# Altium integrated library TI_Logic_Gate.IntLib: 2017 symbols (part 45 of 56)
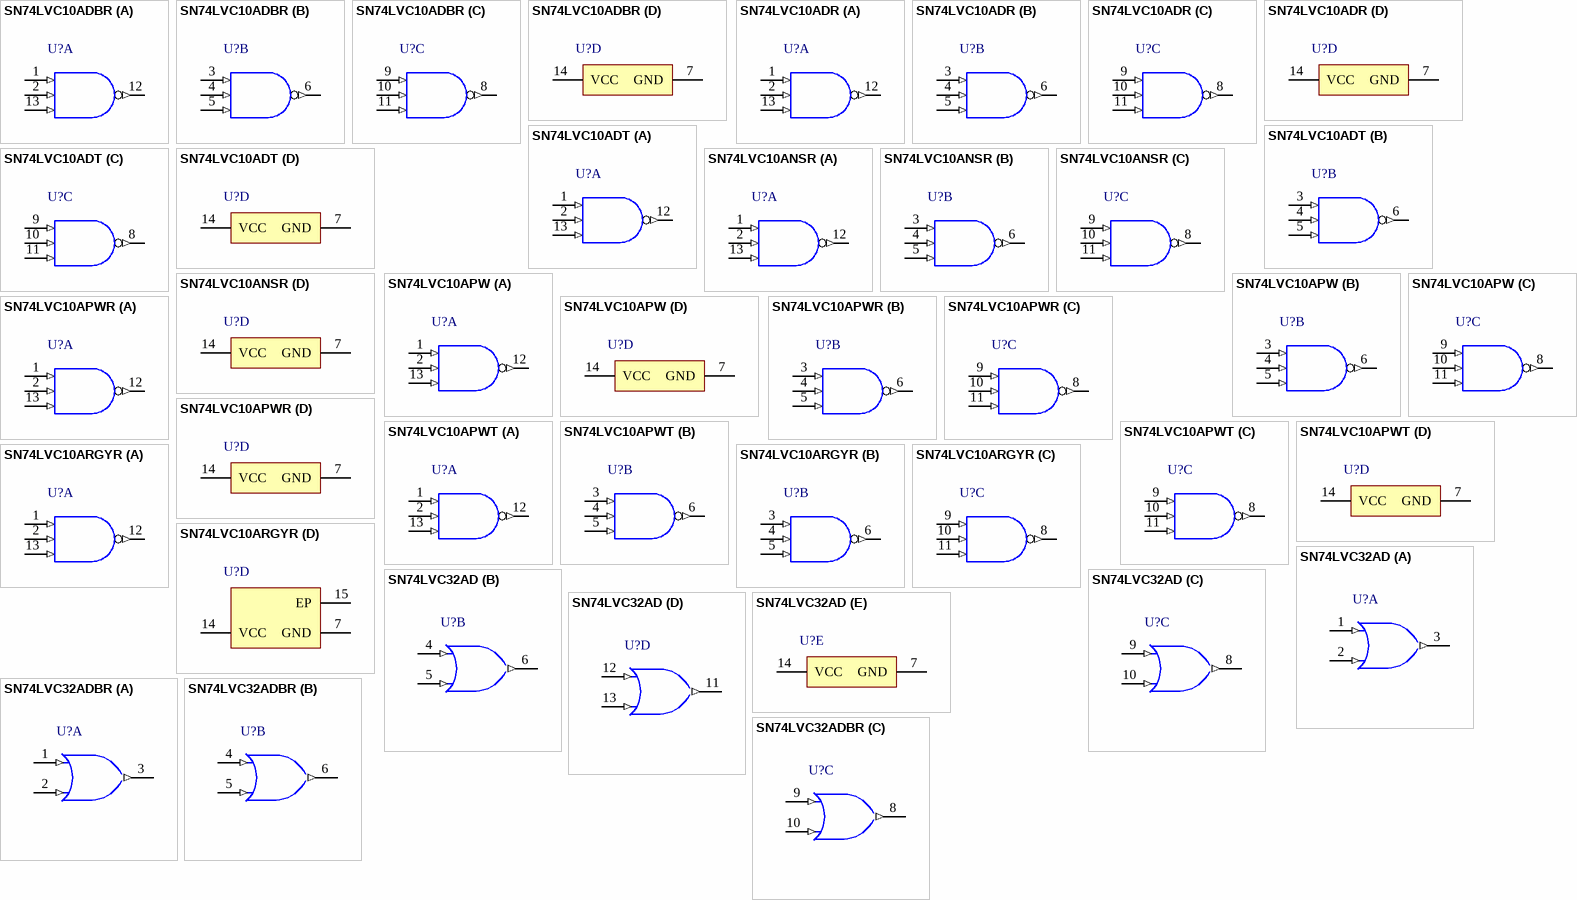
[diagram p269: symbols SN74LVC10ADBR to SN74LVC32ADBR]

## SN74LVC10ADBR
designator U?
Triple 3-Input Positive-NAND Gate, DB0014A, LARGE T&R; Generic Part Number: SN74LVC10A; Manufacturer: Texas Instruments; PartNumber: SN74LVC10ADBR; VCC(Min)(V): 1.65; VCC(Max)(V): 3.6; Output Type: TTL; ICC @ Nom Voltage(Max)(mA): 0.04; F @ Nom Voltage(Max)(Mhz): 150; Rating: Catalog; Technology Family: LVC; Voltage(Nom)(V): 1.8,2.5,2.7,3.3; Schmitt Trigger: No; Output Drive (IOL/IOH)(Max)(mA): 24/-24; tpd @ Nom Voltage(Max)(ns): 10.6,7.8,5.8,4.9; DatasheetVersion: SCAS284O; PackageReference: DB0014A; Supplier 1: Mouser; Supplier Part Number 1: 595-SN74LVC10ADBR; Supplier 2: Digi-Key; Supplier Part Number 2: 296-8444-2-ND; Supplier 3: Digi-Key; Supplier Part Number 3: 296-8444-1-ND; Supplier 4: Digi-Key; Supplier Part Number 4: 296-8444-6-ND; Input Type: TTL; Operating Temperature Range(C): -40 to 125,-40 to 85; Code_JEDEC: MO-150; ComponentLink1Description: Manufacturer URL; ComponentLink1URL: http://www.ti.com/; ComponentLink2Description: Datasheet; ComponentLink2URL: http://www.ti.com/lit/ds/symlink/sn74lvc10a.pdf; ComponentLink3Description: Package Specification; ComponentLink3URL: http://www.ti.com/lit/ml/msso002e/msso002e.pdf
footprint DB0014A_N (SOP, 14-Leads, Body 5.6x6.5mm, Pitch 0.65mm, IPC Medium Density)
footprint DB0014A_M (SOP, 14-Leads, Body 5.6x6.5mm, Pitch 0.65mm, IPC Low Density)
footprint DB0014A_L (SOP, 14-Leads, Body 5.6x6.5mm, Pitch 0.65mm, IPC High Density)
part A pins: 1 1A (in), 2 1B (in), 12 1Y (out), 13 1C (in)
part B pins: 3 2A (in), 4 2B (in), 5 2C (in), 6 2Y (out)
part C pins: 8 3Y (out), 9 3A (in), 10 3B (in), 11 3C (in)
part D pins: 7 GND (power), 14 VCC (power)

## SN74LVC10ADR
designator U?
Triple 3-Input Positive-NAND Gate, D0014A, LARGE T&R; Generic Part Number: SN74LVC10A; Manufacturer: Texas Instruments; PartNumber: SN74LVC10ADR; VCC(Min)(V): 1.65; VCC(Max)(V): 3.6; Output Type: TTL; ICC @ Nom Voltage(Max)(mA): 0.04; F @ Nom Voltage(Max)(Mhz): 150; Rating: Catalog; Technology Family: LVC; Voltage(Nom)(V): 1.8,2.5,2.7,3.3; Schmitt Trigger: No; Output Drive (IOL/IOH)(Max)(mA): 24/-24; tpd @ Nom Voltage(Max)(ns): 10.6,7.8,5.8,4.9; DatasheetVersion: SCAS284O; PackageReference: D0014A; Supplier 1: Mouser; Supplier Part Number 1: 595-SN74LVC10ADR; Supplier 2: Digi-Key; Supplier Part Number 2: 296-38252-2-ND; Supplier 3: Digi-Key; Supplier Part Number 3: 296-38252-1-ND; Supplier 4: Digi-Key; Supplier Part Number 4: 296-38252-6-ND; Input Type: TTL; Operating Temperature Range(C): -40 to 125,-40 to 85; Code_JEDEC: MS-012; ComponentLink1Description: Manufacturer URL; ComponentLink1URL: http://www.ti.com/; ComponentLink2Description: Datasheet; ComponentLink2URL: http://www.ti.com/lit/ds/symlink/sn74lvc10a.pdf; ComponentLink3Description: Package Specification; ComponentLink3URL: http://www.ti.com/lit/ml/mpds177g/mpds177g.pdf
footprint D0014A_N (SOIC, 14-Leads, Body 8.75x4mm, Pitch 1.27mm, IPC Medium Density)
footprint D0014A_M (SOIC, 14-Leads, Body 8.75x4mm, Pitch 1.27mm, IPC Low Density)
footprint D0014A_L (SOIC, 14-Leads, Body 8.75x4mm, Pitch 1.27mm, IPC High Density)
part A pins: 1 1A (in), 2 1B (in), 12 1Y (out), 13 1C (in)
part B pins: 3 2A (in), 4 2B (in), 5 2C (in), 6 2Y (out)
part C pins: 8 3Y (out), 9 3A (in), 10 3B (in), 11 3C (in)
part D pins: 7 GND (power), 14 VCC (power)

## SN74LVC10ADT
designator U?
Triple 3-Input Positive-NAND Gate, D0014A, SMALL T&R; Generic Part Number: SN74LVC10A; Manufacturer: Texas Instruments; PartNumber: SN74LVC10ADT; VCC(Min)(V): 1.65; VCC(Max)(V): 3.6; Output Type: TTL; ICC @ Nom Voltage(Max)(mA): 0.04; F @ Nom Voltage(Max)(Mhz): 150; Rating: Catalog; Technology Family: LVC; Voltage(Nom)(V): 1.8,2.5,2.7,3.3; Schmitt Trigger: No; Output Drive (IOL/IOH)(Max)(mA): 24/-24; tpd @ Nom Voltage(Max)(ns): 10.6,7.8,5.8,4.9; DatasheetVersion: SCAS284O; PackageReference: D0014A; Supplier 1: Mouser; Supplier Part Number 1: 595-SN74LVC10ADT; Supplier 2: Digi-Key; Supplier Part Number 2: SN74LVC10ADT-ND; Input Type: TTL; Operating Temperature Range(C): -40 to 125,-40 to 85; Code_JEDEC: MS-012; ComponentLink1Description: Manufacturer URL; ComponentLink1URL: http://www.ti.com/; ComponentLink2Description: Datasheet; ComponentLink2URL: http://www.ti.com/lit/ds/symlink/sn74lvc10a.pdf; ComponentLink3Description: Package Specification; ComponentLink3URL: http://www.ti.com/lit/ml/mpds177g/mpds177g.pdf
footprint D0014A_N (SOIC, 14-Leads, Body 8.75x4mm, Pitch 1.27mm, IPC Medium Density)
footprint D0014A_M (SOIC, 14-Leads, Body 8.75x4mm, Pitch 1.27mm, IPC Low Density)
footprint D0014A_L (SOIC, 14-Leads, Body 8.75x4mm, Pitch 1.27mm, IPC High Density)
part A pins: 1 1A (in), 2 1B (in), 12 1Y (out), 13 1C (in)
part B pins: 3 2A (in), 4 2B (in), 5 2C (in), 6 2Y (out)
part C pins: 8 3Y (out), 9 3A (in), 10 3B (in), 11 3C (in)
part D pins: 7 GND (power), 14 VCC (power)

## SN74LVC10ANSR
designator U?
Triple 3-Input Positive-NAND Gate, NS0014A, LARGE T&R; Generic Part Number: SN74LVC10A; Manufacturer: Texas Instruments; PartNumber: SN74LVC10ANSR; VCC(Min)(V): 1.65; VCC(Max)(V): 3.6; Output Type: TTL; ICC @ Nom Voltage(Max)(mA): 0.04; F @ Nom Voltage(Max)(Mhz): 150; Rating: Catalog; Technology Family: LVC; Voltage(Nom)(V): 1.8,2.5,2.7,3.3; Schmitt Trigger: No; Output Drive (IOL/IOH)(Max)(mA): 24/-24; tpd @ Nom Voltage(Max)(ns): 10.6,7.8,5.8,4.9; DatasheetVersion: SCAS284O; PackageReference: NS0014A; Supplier 1: Mouser; Supplier Part Number 1: 595-SN74LVC10ANSR; Supplier 2: Digi-Key; Supplier Part Number 2: SN74LVC10ANSR-ND; Input Type: TTL; Operating Temperature Range(C): -40 to 125,-40 to 85; ComponentLink1Description: Manufacturer URL; ComponentLink1URL: http://www.ti.com/; ComponentLink2Description: Datasheet; ComponentLink2URL: http://www.ti.com/lit/ds/symlink/sn74lvc10a.pdf; ComponentLink3Description: Package Specification; ComponentLink3URL: http://www.ti.com/lit/ml/msop002a/msop002a.pdf
footprint NS0014A_N (SOIC,14-Leads,Body 10.5x5.6mm,Pitch 1.27mm,IPC Medium Density)
footprint NS0014A_M (SOIC,14-Leads,Body 10.5x5.6mm,Pitch 1.27mm,IPC Low Density)
footprint NS0014A_L (SOIC,14-Leads,Body 10.5x5.6mm,Pitch 0.4mm,IPC High Density)
part A pins: 1 1A (in), 2 1B (in), 12 1Y (out), 13 1C (in)
part B pins: 3 2A (in), 4 2B (in), 5 2C (in), 6 2Y (out)
part C pins: 8 3Y (out), 9 3A (in), 10 3B (in), 11 3C (in)
part D pins: 7 GND (power), 14 VCC (power)

## SN74LVC10APW
designator U?
Triple 3-Input Positive-NAND Gate, PW0014A, TUBE; Generic Part Number: SN74LVC10A; Manufacturer: Texas Instruments; PartNumber: SN74LVC10APW; VCC(Min)(V): 1.65; VCC(Max)(V): 3.6; Output Type: TTL; ICC @ Nom Voltage(Max)(mA): 0.04; F @ Nom Voltage(Max)(Mhz): 150; Rating: Catalog; Technology Family: LVC; Voltage(Nom)(V): 1.8,2.5,2.7,3.3; Schmitt Trigger: No; Output Drive (IOL/IOH)(Max)(mA): 24/-24; tpd @ Nom Voltage(Max)(ns): 10.6,7.8,5.8,4.9; DatasheetVersion: SCAS284O; PackageReference: PW0014A; Supplier 1: Mouser; Supplier Part Number 1: 595-SN74LVC10APW; Supplier 2: Digi-Key; Supplier Part Number 2: 296-26578-5-ND; Input Type: TTL; Operating Temperature Range(C): -40 to 125,-40 to 85; Code_JEDEC: MO-153; ComponentLink1Description: Manufacturer URL; ComponentLink1URL: http://www.ti.com/; ComponentLink2Description: Datasheet; ComponentLink2URL: http://www.ti.com/lit/ds/symlink/sn74lvc10a.pdf; ComponentLink3Description: Package Specification; ComponentLink3URL: http://www.ti.com/lit/ml/mpds360/mpds360.pdf
footprint PW0014A_N (SOP, 14-Leads, Body 5.1x4.5mm, Pitch 0.65mm, IPC Medium Density)
footprint PW0014A_M (SOP, 14-Leads, Body 5.1x4.5mm, Pitch 0.65mm, IPC Low Density)
footprint PW0014A_L (SOP, 14-Leads, Body 5.1x4.5mm, Pitch 0.65mm, IPC High Density)
part A pins: 1 1A (in), 2 1B (in), 12 1Y (out), 13 1C (in)
part B pins: 3 2A (in), 4 2B (in), 5 2C (in), 6 2Y (out)
part C pins: 8 3Y (out), 9 3A (in), 10 3B (in), 11 3C (in)
part D pins: 7 GND (power), 14 VCC (power)

## SN74LVC10APWR
designator U?
Triple 3-Input Positive-NAND Gate, PW0014A, LARGE T&R; Generic Part Number: SN74LVC10A; Manufacturer: Texas Instruments; PartNumber: SN74LVC10APWR; VCC(Min)(V): 1.65; VCC(Max)(V): 3.6; Output Type: TTL; ICC @ Nom Voltage(Max)(mA): 0.04; F @ Nom Voltage(Max)(Mhz): 150; Rating: Catalog; Technology Family: LVC; Voltage(Nom)(V): 1.8,2.5,2.7,3.3; Schmitt Trigger: No; Output Drive (IOL/IOH)(Max)(mA): 24/-24; tpd @ Nom Voltage(Max)(ns): 10.6,7.8,5.8,4.9; DatasheetVersion: SCAS284O; PackageReference: PW0014A; Supplier 1: Mouser; Supplier Part Number 1: 595-SN74LVC10APWR; Supplier 2: Digi-Key; Supplier Part Number 2: 296-8445-2-ND; Supplier 3: Digi-Key; Supplier Part Number 3: 296-8445-1-ND; Supplier 4: Digi-Key; Supplier Part Number 4: 296-8445-6-ND; Input Type: TTL; Operating Temperature Range(C): -40 to 125,-40 to 85; Code_JEDEC: MO-153; ComponentLink1Description: Manufacturer URL; ComponentLink1URL: http://www.ti.com/; ComponentLink2Description: Datasheet; ComponentLink2URL: http://www.ti.com/lit/ds/symlink/sn74lvc10a.pdf; ComponentLink3Description: Package Specification; ComponentLink3URL: http://www.ti.com/lit/ml/mpds360/mpds360.pdf
footprint PW0014A_N (SOP, 14-Leads, Body 5.1x4.5mm, Pitch 0.65mm, IPC Medium Density)
footprint PW0014A_M (SOP, 14-Leads, Body 5.1x4.5mm, Pitch 0.65mm, IPC Low Density)
footprint PW0014A_L (SOP, 14-Leads, Body 5.1x4.5mm, Pitch 0.65mm, IPC High Density)
part A pins: 1 1A (in), 2 1B (in), 12 1Y (out), 13 1C (in)
part B pins: 3 2A (in), 4 2B (in), 5 2C (in), 6 2Y (out)
part C pins: 8 3Y (out), 9 3A (in), 10 3B (in), 11 3C (in)
part D pins: 7 GND (power), 14 VCC (power)

## SN74LVC10APWT
designator U?
Triple 3-Input Positive-NAND Gate, PW0014A, SMALL T&R; Generic Part Number: SN74LVC10A; Manufacturer: Texas Instruments; PartNumber: SN74LVC10APWT; VCC(Min)(V): 1.65; VCC(Max)(V): 3.6; Output Type: TTL; ICC @ Nom Voltage(Max)(mA): 0.04; F @ Nom Voltage(Max)(Mhz): 150; Rating: Catalog; Technology Family: LVC; Voltage(Nom)(V): 1.8,2.5,2.7,3.3; Schmitt Trigger: No; Output Drive (IOL/IOH)(Max)(mA): 24/-24; tpd @ Nom Voltage(Max)(ns): 10.6,7.8,5.8,4.9; DatasheetVersion: SCAS284O; PackageReference: PW0014A; Supplier 1: Mouser; Supplier Part Number 1: 595-SN74LVC10APWT; Supplier 2: Digi-Key; Supplier Part Number 2: 296-28634-2-ND; Supplier 3: Digi-Key; Supplier Part Number 3: 296-28634-1-ND; Supplier 4: Digi-Key; Supplier Part Number 4: 296-28634-6-ND; Input Type: TTL; Operating Temperature Range(C): -40 to 125,-40 to 85; Code_JEDEC: MO-153; ComponentLink1Description: Manufacturer URL; ComponentLink1URL: http://www.ti.com/; ComponentLink2Description: Datasheet; ComponentLink2URL: http://www.ti.com/lit/ds/symlink/sn74lvc10a.pdf; ComponentLink3Description: Package Specification; ComponentLink3URL: http://www.ti.com/lit/ml/mpds360/mpds360.pdf
footprint PW0014A_N (SOP, 14-Leads, Body 5.1x4.5mm, Pitch 0.65mm, IPC Medium Density)
footprint PW0014A_M (SOP, 14-Leads, Body 5.1x4.5mm, Pitch 0.65mm, IPC Low Density)
footprint PW0014A_L (SOP, 14-Leads, Body 5.1x4.5mm, Pitch 0.65mm, IPC High Density)
part A pins: 1 1A (in), 2 1B (in), 12 1Y (out), 13 1C (in)
part B pins: 3 2A (in), 4 2B (in), 5 2C (in), 6 2Y (out)
part C pins: 8 3Y (out), 9 3A (in), 10 3B (in), 11 3C (in)
part D pins: 7 GND (power), 14 VCC (power)

## SN74LVC10ARGYR
designator U?
Triple 3-Input Positive-NAND Gate, RGY0014A, LARGE T&R; Generic Part Number: SN74LVC10A; Manufacturer: Texas Instruments; PartNumber: SN74LVC10ARGYR; VCC(Min)(V): 1.65; VCC(Max)(V): 3.6; Output Type: TTL; ICC @ Nom Voltage(Max)(mA): 0.04; F @ Nom Voltage(Max)(Mhz): 150; Rating: Catalog; Technology Family: LVC; Voltage(Nom)(V): 1.8,2.5,2.7,3.3; Schmitt Trigger: No; Output Drive (IOL/IOH)(Max)(mA): 24/-24; tpd @ Nom Voltage(Max)(ns): 10.6,7.8,5.8,4.9; DatasheetVersion: SCAS284O; PackageReference: RGY0014A; Supplier 1: Mouser; Supplier Part Number 1: 595-SN74LVC10ARGYR; Supplier 2: Digi-Key; Supplier Part Number 2: 296-13960-2-ND; Supplier 3: Digi-Key; Supplier Part Number 3: 296-13960-1-ND; Supplier 4: Digi-Key; Supplier Part Number 4: 296-13960-6-ND; Input Type: TTL; Operating Temperature Range(C): -40 to 125,-40 to 85; Code_JEDEC: MO-241; ComponentLink1Description: Manufacturer URL; ComponentLink1URL: http://www.ti.com/; ComponentLink2Description: Datasheet; ComponentLink2URL: http://www.ti.com/lit/ds/symlink/sn74lvc10a.pdf; ComponentLink3Description: Package Specification; ComponentLink3URL: http://www.ti.com/lit/ml/mpqf114g/mpqf114g.pdf
footprint RGY0014A_V (QFN, 14-Leads, Body 3.5x3.5mm, Thermal Pad 2.05x2.05mm, TI Recommend)
part A pins: 1 1A (in), 2 1B (in), 12 1Y (out), 13 1C (in)
part B pins: 3 2A (in), 4 2B (in), 5 2C (in), 6 2Y (out)
part C pins: 8 3Y (out), 9 3A (in), 10 3B (in), 11 3C (in)
part D pins: 7 GND (power), 14 VCC (power), 15 EP

## SN74LVC32AD
designator U?
Quadruple 2-Input Positive-OR Gate, D0014A, TUBE; Generic Part Number: SN74LVC32A; Manufacturer: Texas Instruments; PartNumber: SN74LVC32AD; VCC(Min)(V): 1.65; VCC(Max)(V): 3.6; Output Type: TTL; ICC @ Nom Voltage(Max)(mA): 0.04; Bits(#): 4; F @ Nom Voltage(Max)(Mhz): 70; Rating: Catalog; Voltage(Nom)(V): 1.8,2.5,2.7,3.3; Output Drive (IOL/IOH)(Max)(mA): 24/-24; tpd @ Nom Voltage(Max)(ns): 8.7,5.4,4.4,3.8; DatasheetVersion: SCAS286Q; PackageReference: D0014A; Input Type: TTL; Operating Temperature Range(C): -40 to 105,-40 to 125; Code_JEDEC: MS-012; ComponentLink1Description: Manufacturer URL; ComponentLink1URL: http://www.ti.com/; ComponentLink2Description: Datasheet; ComponentLink2URL: http://www.ti.com/lit/ds/symlink/sn74lvc32a.pdf; ComponentLink3Description: Package Specification; ComponentLink3URL: http://www.ti.com/lit/ml/mpds177g/mpds177g.pdf
footprint D0014A_N (SOIC, 14-Leads, Body 8.75x4mm, Pitch 1.27mm, IPC Medium Density)
footprint D0014A_M (SOIC, 14-Leads, Body 8.75x4mm, Pitch 1.27mm, IPC Low Density)
footprint D0014A_L (SOIC, 14-Leads, Body 8.75x4mm, Pitch 1.27mm, IPC High Density)
part A pins: 1 1A (in), 2 1B (in), 3 1Y (out)
part B pins: 4 2A (in), 5 2B (in), 6 2Y (out)
part C pins: 8 3Y (out), 9 3A (in), 10 3B (in)
part D pins: 11 4Y (out), 12 4A (in), 13 4B (in)
part E pins: 7 GND (power), 14 VCC (power)

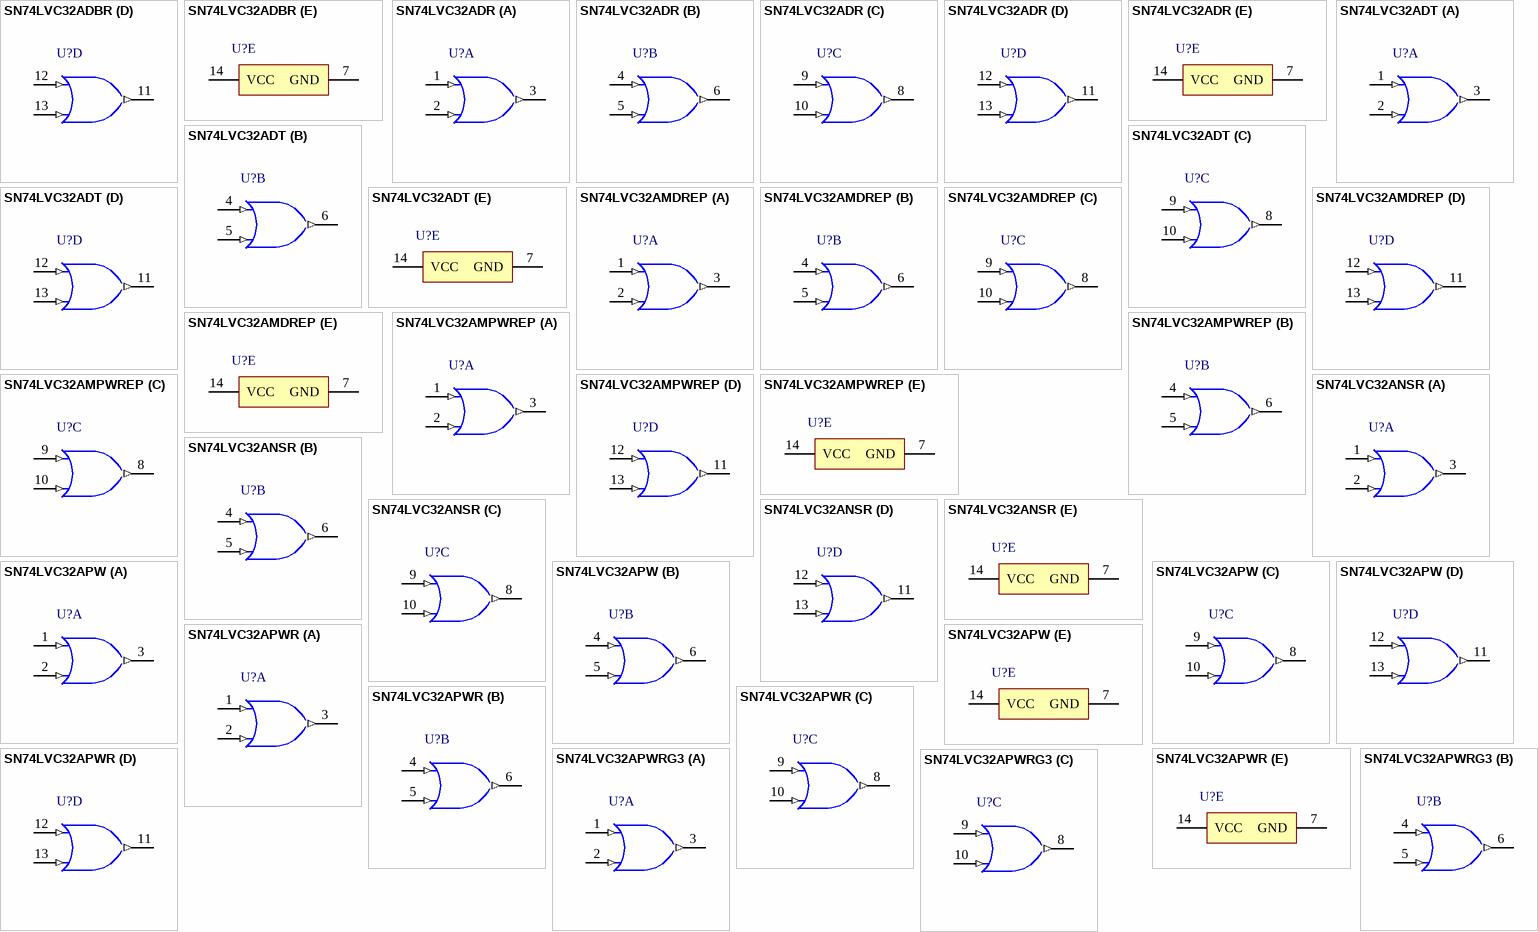
[diagram p176: symbols SN74LVC32ADBR to SN74LVC32APWRG3]

## SN74LVC32ADBR
designator U?
Quadruple 2-Input Positive-OR Gate, DB0014A, LARGE T&R; Generic Part Number: SN74LVC32A; Manufacturer: Texas Instruments; PartNumber: SN74LVC32ADBR; VCC(Min)(V): 1.65; VCC(Max)(V): 3.6; Output Type: TTL; ICC @ Nom Voltage(Max)(mA): 0.04; Bits(#): 4; F @ Nom Voltage(Max)(Mhz): 70; Rating: Catalog; Voltage(Nom)(V): 1.8,2.5,2.7,3.3; Output Drive (IOL/IOH)(Max)(mA): 24/-24; tpd @ Nom Voltage(Max)(ns): 8.7,5.4,4.4,3.8; DatasheetVersion: SCAS286Q; PackageReference: DB0014A; Input Type: TTL; Operating Temperature Range(C): -40 to 105,-40 to 125; Code_JEDEC: MO-150; ComponentLink1Description: Manufacturer URL; ComponentLink1URL: http://www.ti.com/; ComponentLink2Description: Datasheet; ComponentLink2URL: http://www.ti.com/lit/ds/symlink/sn74lvc32a.pdf; ComponentLink3Description: Package Specification; ComponentLink3URL: http://www.ti.com/lit/ml/msso002e/msso002e.pdf
footprint DB0014A_N (SOP, 14-Leads, Body 5.6x6.5mm, Pitch 0.65mm, IPC Medium Density)
footprint DB0014A_M (SOP, 14-Leads, Body 5.6x6.5mm, Pitch 0.65mm, IPC Low Density)
footprint DB0014A_L (SOP, 14-Leads, Body 5.6x6.5mm, Pitch 0.65mm, IPC High Density)
part A pins: 1 1A (in), 2 1B (in), 3 1Y (out)
part B pins: 4 2A (in), 5 2B (in), 6 2Y (out)
part C pins: 8 3Y (out), 9 3A (in), 10 3B (in)
part D pins: 11 4Y (out), 12 4A (in), 13 4B (in)
part E pins: 7 GND (power), 14 VCC (power)

## SN74LVC32ADR
designator U?
Quadruple 2-Input Positive-OR Gate, D0014A, LARGE T&R; Generic Part Number: SN74LVC32A; Manufacturer: Texas Instruments; PartNumber: SN74LVC32ADR; VCC(Min)(V): 1.65; VCC(Max)(V): 3.6; Output Type: TTL; ICC @ Nom Voltage(Max)(mA): 0.04; Bits(#): 4; F @ Nom Voltage(Max)(Mhz): 70; Rating: Catalog; Voltage(Nom)(V): 1.8,2.5,2.7,3.3; Output Drive (IOL/IOH)(Max)(mA): 24/-24; tpd @ Nom Voltage(Max)(ns): 8.7,5.4,4.4,3.8; DatasheetVersion: SCAS286Q; PackageReference: D0014A; Input Type: TTL; Operating Temperature Range(C): -40 to 105,-40 to 125; Code_JEDEC: MS-012; ComponentLink1Description: Manufacturer URL; ComponentLink1URL: http://www.ti.com/; ComponentLink2Description: Datasheet; ComponentLink2URL: http://www.ti.com/lit/ds/symlink/sn74lvc32a.pdf; ComponentLink3Description: Package Specification; ComponentLink3URL: http://www.ti.com/lit/ml/mpds177g/mpds177g.pdf
footprint D0014A_N (SOIC, 14-Leads, Body 8.75x4mm, Pitch 1.27mm, IPC Medium Density)
footprint D0014A_M (SOIC, 14-Leads, Body 8.75x4mm, Pitch 1.27mm, IPC Low Density)
footprint D0014A_L (SOIC, 14-Leads, Body 8.75x4mm, Pitch 1.27mm, IPC High Density)
part A pins: 1 1A (in), 2 1B (in), 3 1Y (out)
part B pins: 4 2A (in), 5 2B (in), 6 2Y (out)
part C pins: 8 3Y (out), 9 3A (in), 10 3B (in)
part D pins: 11 4Y (out), 12 4A (in), 13 4B (in)
part E pins: 7 GND (power), 14 VCC (power)

## SN74LVC32ADT
designator U?
Quadruple 2-Input Positive-OR Gate, D0014A, SMALL T&R; Generic Part Number: SN74LVC32A; Manufacturer: Texas Instruments; PartNumber: SN74LVC32ADT; VCC(Min)(V): 1.65; VCC(Max)(V): 3.6; Output Type: TTL; ICC @ Nom Voltage(Max)(mA): 0.04; Bits(#): 4; F @ Nom Voltage(Max)(Mhz): 70; Rating: Catalog; Voltage(Nom)(V): 1.8,2.5,2.7,3.3; Output Drive (IOL/IOH)(Max)(mA): 24/-24; tpd @ Nom Voltage(Max)(ns): 8.7,5.4,4.4,3.8; DatasheetVersion: SCAS286Q; PackageReference: D0014A; Input Type: TTL; Operating Temperature Range(C): -40 to 105,-40 to 125; Code_JEDEC: MS-012; ComponentLink1Description: Manufacturer URL; ComponentLink1URL: http://www.ti.com/; ComponentLink2Description: Datasheet; ComponentLink2URL: http://www.ti.com/lit/ds/symlink/sn74lvc32a.pdf; ComponentLink3Description: Package Specification; ComponentLink3URL: http://www.ti.com/lit/ml/mpds177g/mpds177g.pdf
footprint D0014A_N (SOIC, 14-Leads, Body 8.75x4mm, Pitch 1.27mm, IPC Medium Density)
footprint D0014A_M (SOIC, 14-Leads, Body 8.75x4mm, Pitch 1.27mm, IPC Low Density)
footprint D0014A_L (SOIC, 14-Leads, Body 8.75x4mm, Pitch 1.27mm, IPC High Density)
part A pins: 1 1A (in), 2 1B (in), 3 1Y (out)
part B pins: 4 2A (in), 5 2B (in), 6 2Y (out)
part C pins: 8 3Y (out), 9 3A (in), 10 3B (in)
part D pins: 11 4Y (out), 12 4A (in), 13 4B (in)
part E pins: 7 GND (power), 14 VCC (power)

## SN74LVC32AMDREP
designator U?
Enhanced Product Quadruple 2-Input Positive-Or Gate, D0014A, LARGE T&R; Generic Part Number: SN74LVC32A-EP; Manufacturer: Texas Instruments; PartNumber: SN74LVC32AMDREP; VCC(Min)(V): 2; VCC(Max)(V): 3.6; Output Type: TTL; ICC @ Nom Voltage(Max)(mA): 0.01; Bits(#): 4; F @ Nom Voltage(Max)(Mhz): 70; Rating: HiRel Enhanced Product; Voltage(Nom)(V): 2.7,3.3; Output Drive (IOL/IOH)(Max)(mA): 24/-24; tpd @ Nom Voltage(Max)(ns): 4.4,3.8; DatasheetVersion: SCAS733C; PackageReference: D0014A; Input Type: TTL; Operating Temperature Range(C): -40 to 125,-55 to 125; Code_JEDEC: MS-012; ComponentLink1Description: Manufacturer URL; ComponentLink1URL: http://www.ti.com/; ComponentLink2Description: Datasheet; ComponentLink2URL: http://www.ti.com/lit/ds/symlink/sn74lvc32a-ep.pdf; ComponentLink3Description: Package Specification; ComponentLink3URL: http://www.ti.com/lit/ml/mpds177g/mpds177g.pdf
footprint D0014A_N (SOIC, 14-Leads, Body 8.75x4mm, Pitch 1.27mm, IPC Medium Density)
footprint D0014A_M (SOIC, 14-Leads, Body 8.75x4mm, Pitch 1.27mm, IPC Low Density)
footprint D0014A_L (SOIC, 14-Leads, Body 8.75x4mm, Pitch 1.27mm, IPC High Density)
part A pins: 1 1A (in), 2 1B (in), 3 1Y (out)
part B pins: 4 2A (in), 5 2B (in), 6 2Y (out)
part C pins: 8 3Y (out), 9 3A (in), 10 3B (in)
part D pins: 11 4Y (out), 12 4A (in), 13 4B (in)
part E pins: 7 GND (power), 14 VCC (power)

## SN74LVC32AMPWREP
designator U?
Enhanced Product Quadruple 2-Input Positive-Or Gate, PW0014A, LARGE T&R; Generic Part Number: SN74LVC32A-EP; Manufacturer: Texas Instruments; PartNumber: SN74LVC32AMPWREP; VCC(Min)(V): 2; VCC(Max)(V): 3.6; Output Type: TTL; ICC @ Nom Voltage(Max)(mA): 0.01; Bits(#): 4; F @ Nom Voltage(Max)(Mhz): 70; Rating: HiRel Enhanced Product; Voltage(Nom)(V): 2.7,3.3; Output Drive (IOL/IOH)(Max)(mA): 24/-24; tpd @ Nom Voltage(Max)(ns): 4.4,3.8; DatasheetVersion: SCAS733C; PackageReference: PW0014A; Input Type: TTL; Operating Temperature Range(C): -40 to 125,-55 to 125; Code_JEDEC: MO-153; ComponentLink1Description: Manufacturer URL; ComponentLink1URL: http://www.ti.com/; ComponentLink2Description: Datasheet; ComponentLink2URL: http://www.ti.com/lit/ds/symlink/sn74lvc32a-ep.pdf; ComponentLink3Description: Package Specification; ComponentLink3URL: http://www.ti.com/lit/ml/mpds360/mpds360.pdf
footprint PW0014A_N (SOP, 14-Leads, Body 5.1x4.5mm, Pitch 0.65mm, IPC Medium Density)
footprint PW0014A_M (SOP, 14-Leads, Body 5.1x4.5mm, Pitch 0.65mm, IPC Low Density)
footprint PW0014A_L (SOP, 14-Leads, Body 5.1x4.5mm, Pitch 0.65mm, IPC High Density)
part A pins: 1 1A (in), 2 1B (in), 3 1Y (out)
part B pins: 4 2A (in), 5 2B (in), 6 2Y (out)
part C pins: 8 3Y (out), 9 3A (in), 10 3B (in)
part D pins: 11 4Y (out), 12 4A (in), 13 4B (in)
part E pins: 7 GND (power), 14 VCC (power)

## SN74LVC32ANSR
designator U?
Quadruple 2-Input Positive-OR Gate, NS0014A, LARGE T&R; Generic Part Number: SN74LVC32A; Manufacturer: Texas Instruments; PartNumber: SN74LVC32ANSR; VCC(Min)(V): 1.65; VCC(Max)(V): 3.6; Output Type: TTL; ICC @ Nom Voltage(Max)(mA): 0.04; Bits(#): 4; F @ Nom Voltage(Max)(Mhz): 70; Rating: Catalog; Voltage(Nom)(V): 1.8,2.5,2.7,3.3; Output Drive (IOL/IOH)(Max)(mA): 24/-24; tpd @ Nom Voltage(Max)(ns): 8.7,5.4,4.4,3.8; DatasheetVersion: SCAS286Q; PackageReference: NS0014A; Input Type: TTL; Operating Temperature Range(C): -40 to 105,-40 to 125; ComponentLink1Description: Manufacturer URL; ComponentLink1URL: http://www.ti.com/; ComponentLink2Description: Datasheet; ComponentLink2URL: http://www.ti.com/lit/ds/symlink/sn74lvc32a.pdf; ComponentLink3Description: Package Specification; ComponentLink3URL: http://www.ti.com/lit/ml/msop002a/msop002a.pdf
footprint NS0014A_N (SOIC,14-Leads,Body 10.5x5.6mm,Pitch 1.27mm,IPC Medium Density)
footprint NS0014A_M (SOIC,14-Leads,Body 10.5x5.6mm,Pitch 1.27mm,IPC Low Density)
footprint NS0014A_L (SOIC,14-Leads,Body 10.5x5.6mm,Pitch 0.4mm,IPC High Density)
part A pins: 1 1A (in), 2 1B (in), 3 1Y (out)
part B pins: 4 2A (in), 5 2B (in), 6 2Y (out)
part C pins: 8 3Y (out), 9 3A (in), 10 3B (in)
part D pins: 11 4Y (out), 12 4A (in), 13 4B (in)
part E pins: 7 GND (power), 14 VCC (power)

## SN74LVC32APW
designator U?
Quadruple 2-Input Positive-OR Gate, PW0014A, TUBE; Generic Part Number: SN74LVC32A; Manufacturer: Texas Instruments; PartNumber: SN74LVC32APW; VCC(Min)(V): 1.65; VCC(Max)(V): 3.6; Output Type: TTL; ICC @ Nom Voltage(Max)(mA): 0.04; Bits(#): 4; F @ Nom Voltage(Max)(Mhz): 70; Rating: Catalog; Voltage(Nom)(V): 1.8,2.5,2.7,3.3; Output Drive (IOL/IOH)(Max)(mA): 24/-24; tpd @ Nom Voltage(Max)(ns): 8.7,5.4,4.4,3.8; DatasheetVersion: SCAS286Q; PackageReference: PW0014A; Input Type: TTL; Operating Temperature Range(C): -40 to 105,-40 to 125; Code_JEDEC: MO-153; ComponentLink1Description: Manufacturer URL; ComponentLink1URL: http://www.ti.com/; ComponentLink2Description: Datasheet; ComponentLink2URL: http://www.ti.com/lit/ds/symlink/sn74lvc32a.pdf; ComponentLink3Description: Package Specification; ComponentLink3URL: http://www.ti.com/lit/ml/mpds360/mpds360.pdf
footprint PW0014A_N (SOP, 14-Leads, Body 5.1x4.5mm, Pitch 0.65mm, IPC Medium Density)
footprint PW0014A_M (SOP, 14-Leads, Body 5.1x4.5mm, Pitch 0.65mm, IPC Low Density)
footprint PW0014A_L (SOP, 14-Leads, Body 5.1x4.5mm, Pitch 0.65mm, IPC High Density)
part A pins: 1 1A (in), 2 1B (in), 3 1Y (out)
part B pins: 4 2A (in), 5 2B (in), 6 2Y (out)
part C pins: 8 3Y (out), 9 3A (in), 10 3B (in)
part D pins: 11 4Y (out), 12 4A (in), 13 4B (in)
part E pins: 7 GND (power), 14 VCC (power)

## SN74LVC32APWR
designator U?
Quadruple 2-Input Positive-OR Gate, PW0014A, LARGE T&R; Generic Part Number: SN74LVC32A; Manufacturer: Texas Instruments; PartNumber: SN74LVC32APWR; VCC(Min)(V): 1.65; VCC(Max)(V): 3.6; Output Type: TTL; ICC @ Nom Voltage(Max)(mA): 0.04; Bits(#): 4; F @ Nom Voltage(Max)(Mhz): 70; Rating: Catalog; Voltage(Nom)(V): 1.8,2.5,2.7,3.3; Output Drive (IOL/IOH)(Max)(mA): 24/-24; tpd @ Nom Voltage(Max)(ns): 8.7,5.4,4.4,3.8; DatasheetVersion: SCAS286Q; PackageReference: PW0014A; Input Type: TTL; Operating Temperature Range(C): -40 to 105,-40 to 125; Code_JEDEC: MO-153; ComponentLink1Description: Manufacturer URL; ComponentLink1URL: http://www.ti.com/; ComponentLink2Description: Datasheet; ComponentLink2URL: http://www.ti.com/lit/ds/symlink/sn74lvc32a.pdf; ComponentLink3Description: Package Specification; ComponentLink3URL: http://www.ti.com/lit/ml/mpds360/mpds360.pdf
footprint PW0014A_N (SOP, 14-Leads, Body 5.1x4.5mm, Pitch 0.65mm, IPC Medium Density)
footprint PW0014A_M (SOP, 14-Leads, Body 5.1x4.5mm, Pitch 0.65mm, IPC Low Density)
footprint PW0014A_L (SOP, 14-Leads, Body 5.1x4.5mm, Pitch 0.65mm, IPC High Density)
part A pins: 1 1A (in), 2 1B (in), 3 1Y (out)
part B pins: 4 2A (in), 5 2B (in), 6 2Y (out)
part C pins: 8 3Y (out), 9 3A (in), 10 3B (in)
part D pins: 11 4Y (out), 12 4A (in), 13 4B (in)
part E pins: 7 GND (power), 14 VCC (power)

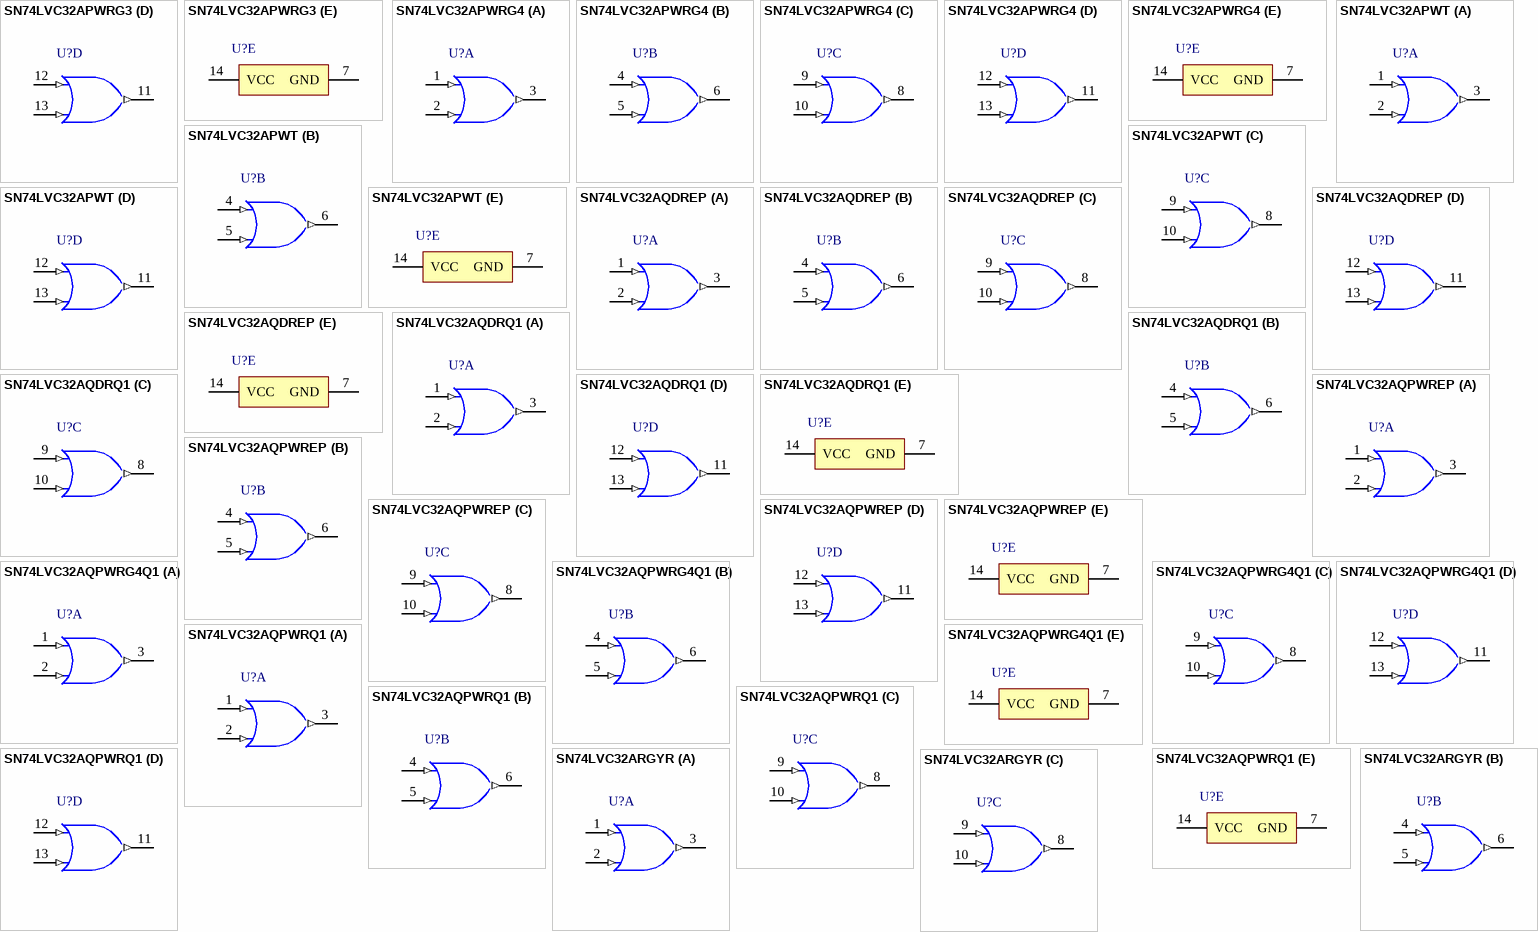
[diagram p177: symbols SN74LVC32APWRG3 to SN74LVC32ARGYR]

## SN74LVC32APWRG3
designator U?
Quadruple 2-Input Positive-OR Gate, PW0014A, LARGE T&R; Generic Part Number: SN74LVC32A; Manufacturer: Texas Instruments; PartNumber: SN74LVC32APWRG3; VCC(Min)(V): 1.65; VCC(Max)(V): 3.6; Output Type: TTL; ICC @ Nom Voltage(Max)(mA): 0.04; Bits(#): 4; F @ Nom Voltage(Max)(Mhz): 70; Rating: Catalog; Voltage(Nom)(V): 1.8,2.5,2.7,3.3; Output Drive (IOL/IOH)(Max)(mA): 24/-24; tpd @ Nom Voltage(Max)(ns): 8.7,5.4,4.4,3.8; DatasheetVersion: SCAS286Q; PackageReference: PW0014A; Input Type: TTL; Operating Temperature Range(C): -40 to 105,-40 to 125; Code_JEDEC: MO-153; ComponentLink1Description: Manufacturer URL; ComponentLink1URL: http://www.ti.com/; ComponentLink2Description: Datasheet; ComponentLink2URL: http://www.ti.com/lit/ds/symlink/sn74lvc32a.pdf; ComponentLink3Description: Package Specification; ComponentLink3URL: http://www.ti.com/lit/ml/mpds360/mpds360.pdf
footprint PW0014A_N (SOP, 14-Leads, Body 5.1x4.5mm, Pitch 0.65mm, IPC Medium Density)
footprint PW0014A_M (SOP, 14-Leads, Body 5.1x4.5mm, Pitch 0.65mm, IPC Low Density)
footprint PW0014A_L (SOP, 14-Leads, Body 5.1x4.5mm, Pitch 0.65mm, IPC High Density)
part A pins: 1 1A (in), 2 1B (in), 3 1Y (out)
part B pins: 4 2A (in), 5 2B (in), 6 2Y (out)
part C pins: 8 3Y (out), 9 3A (in), 10 3B (in)
part D pins: 11 4Y (out), 12 4A (in), 13 4B (in)
part E pins: 7 GND (power), 14 VCC (power)

## SN74LVC32APWRG4
designator U?
Quadruple 2-Input Positive-OR Gate, PW0014A, LARGE T&R; Generic Part Number: SN74LVC32A; Manufacturer: Texas Instruments; PartNumber: SN74LVC32APWRG4; VCC(Min)(V): 1.65; VCC(Max)(V): 3.6; Output Type: TTL; ICC @ Nom Voltage(Max)(mA): 0.04; Bits(#): 4; F @ Nom Voltage(Max)(Mhz): 70; Rating: Catalog; Voltage(Nom)(V): 1.8,2.5,2.7,3.3; Output Drive (IOL/IOH)(Max)(mA): 24/-24; tpd @ Nom Voltage(Max)(ns): 8.7,5.4,4.4,3.8; DatasheetVersion: SCAS286Q; PackageReference: PW0014A; Input Type: TTL; Operating Temperature Range(C): -40 to 105,-40 to 125; Code_JEDEC: MO-153; ComponentLink1Description: Manufacturer URL; ComponentLink1URL: http://www.ti.com/; ComponentLink2Description: Datasheet; ComponentLink2URL: http://www.ti.com/lit/ds/symlink/sn74lvc32a.pdf; ComponentLink3Description: Package Specification; ComponentLink3URL: http://www.ti.com/lit/ml/mpds360/mpds360.pdf
footprint PW0014A_N (SOP, 14-Leads, Body 5.1x4.5mm, Pitch 0.65mm, IPC Medium Density)
footprint PW0014A_M (SOP, 14-Leads, Body 5.1x4.5mm, Pitch 0.65mm, IPC Low Density)
footprint PW0014A_L (SOP, 14-Leads, Body 5.1x4.5mm, Pitch 0.65mm, IPC High Density)
part A pins: 1 1A (in), 2 1B (in), 3 1Y (out)
part B pins: 4 2A (in), 5 2B (in), 6 2Y (out)
part C pins: 8 3Y (out), 9 3A (in), 10 3B (in)
part D pins: 11 4Y (out), 12 4A (in), 13 4B (in)
part E pins: 7 GND (power), 14 VCC (power)

## SN74LVC32APWT
designator U?
Quadruple 2-Input Positive-OR Gate, PW0014A, SMALL T&R; Generic Part Number: SN74LVC32A; Manufacturer: Texas Instruments; PartNumber: SN74LVC32APWT; VCC(Min)(V): 1.65; VCC(Max)(V): 3.6; Output Type: TTL; ICC @ Nom Voltage(Max)(mA): 0.04; Bits(#): 4; F @ Nom Voltage(Max)(Mhz): 70; Rating: Catalog; Voltage(Nom)(V): 1.8,2.5,2.7,3.3; Output Drive (IOL/IOH)(Max)(mA): 24/-24; tpd @ Nom Voltage(Max)(ns): 8.7,5.4,4.4,3.8; DatasheetVersion: SCAS286Q; PackageReference: PW0014A; Input Type: TTL; Operating Temperature Range(C): -40 to 105,-40 to 125; Code_JEDEC: MO-153; ComponentLink1Description: Manufacturer URL; ComponentLink1URL: http://www.ti.com/; ComponentLink2Description: Datasheet; ComponentLink2URL: http://www.ti.com/lit/ds/symlink/sn74lvc32a.pdf; ComponentLink3Description: Package Specification; ComponentLink3URL: http://www.ti.com/lit/ml/mpds360/mpds360.pdf
footprint PW0014A_N (SOP, 14-Leads, Body 5.1x4.5mm, Pitch 0.65mm, IPC Medium Density)
footprint PW0014A_M (SOP, 14-Leads, Body 5.1x4.5mm, Pitch 0.65mm, IPC Low Density)
footprint PW0014A_L (SOP, 14-Leads, Body 5.1x4.5mm, Pitch 0.65mm, IPC High Density)
part A pins: 1 1A (in), 2 1B (in), 3 1Y (out)
part B pins: 4 2A (in), 5 2B (in), 6 2Y (out)
part C pins: 8 3Y (out), 9 3A (in), 10 3B (in)
part D pins: 11 4Y (out), 12 4A (in), 13 4B (in)
part E pins: 7 GND (power), 14 VCC (power)

## SN74LVC32AQDREP
designator U?
Enhanced Product Quadruple 2-Input Positive-Or Gate, D0014A, LARGE T&R; Generic Part Number: SN74LVC32A-EP; Manufacturer: Texas Instruments; PartNumber: SN74LVC32AQDREP; VCC(Min)(V): 2; VCC(Max)(V): 3.6; Output Type: TTL; ICC @ Nom Voltage(Max)(mA): 0.01; Bits(#): 4; F @ Nom Voltage(Max)(Mhz): 70; Rating: HiRel Enhanced Product; Voltage(Nom)(V): 2.7,3.3; Output Drive (IOL/IOH)(Max)(mA): 24/-24; tpd @ Nom Voltage(Max)(ns): 4.4,3.8; DatasheetVersion: SCAS733C; PackageReference: D0014A; Input Type: TTL; Operating Temperature Range(C): -40 to 125,-55 to 125; Code_JEDEC: MS-012; ComponentLink1Description: Manufacturer URL; ComponentLink1URL: http://www.ti.com/; ComponentLink2Description: Datasheet; ComponentLink2URL: http://www.ti.com/lit/ds/symlink/sn74lvc32a-ep.pdf; ComponentLink3Description: Package Specification; ComponentLink3URL: http://www.ti.com/lit/ml/mpds177g/mpds177g.pdf
footprint D0014A_N (SOIC, 14-Leads, Body 8.75x4mm, Pitch 1.27mm, IPC Medium Density)
footprint D0014A_M (SOIC, 14-Leads, Body 8.75x4mm, Pitch 1.27mm, IPC Low Density)
footprint D0014A_L (SOIC, 14-Leads, Body 8.75x4mm, Pitch 1.27mm, IPC High Density)
part A pins: 1 1A (in), 2 1B (in), 3 1Y (out)
part B pins: 4 2A (in), 5 2B (in), 6 2Y (out)
part C pins: 8 3Y (out), 9 3A (in), 10 3B (in)
part D pins: 11 4Y (out), 12 4A (in), 13 4B (in)
part E pins: 7 GND (power), 14 VCC (power)

## SN74LVC32AQDRQ1
designator U?
Automotive Catalog Quadruple 2-Input Positive-OR Gate, D0014A, LARGE T&R; Generic Part Number: SN74LVC32A-Q1; Manufacturer: Texas Instruments; PartNumber: SN74LVC32AQDRQ1; VCC(Min)(V): 2; VCC(Max)(V): 3.6; Output Type: TTL; ICC @ Nom Voltage(Max)(mA): 0.01; Bits(#): 4; F @ Nom Voltage(Max)(Mhz): 70; Voltage(Nom)(V): 2.7,3.3; Output Drive (IOL/IOH)(Max)(mA): 24/-24; tpd @ Nom Voltage(Max)(ns): 4.4,3.8; DatasheetVersion: SCAS706B; PackageReference: D0014A; Input Type: TTL; Operating Temperature Range(C): -40 to 125; Rating: Automotive; Code_JEDEC: MS-012; ComponentLink1Description: Manufacturer URL; ComponentLink1URL: http://www.ti.com/; ComponentLink2Description: Datasheet; ComponentLink2URL: http://www.ti.com/lit/ds/symlink/sn74lvc32a-q1.pdf; ComponentLink3Description: Package Specification; ComponentLink3URL: http://www.ti.com/lit/ml/mpds177g/mpds177g.pdf
footprint D0014A_N (SOIC, 14-Leads, Body 8.75x4mm, Pitch 1.27mm, IPC Medium Density)
footprint D0014A_M (SOIC, 14-Leads, Body 8.75x4mm, Pitch 1.27mm, IPC Low Density)
footprint D0014A_L (SOIC, 14-Leads, Body 8.75x4mm, Pitch 1.27mm, IPC High Density)
part A pins: 1 1A (in), 2 1B (in), 3 1Y (out)
part B pins: 4 2A (in), 5 2B (in), 6 2Y (out)
part C pins: 8 3Y (out), 9 3A (in), 10 3B (in)
part D pins: 11 4Y (out), 12 4A (in), 13 4B (in)
part E pins: 7 GND (power), 14 VCC (power)

## SN74LVC32AQPWREP
designator U?
Enhanced Product Quadruple 2-Input Positive-Or Gate, PW0014A, LARGE T&R; Generic Part Number: SN74LVC32A-EP; Manufacturer: Texas Instruments; PartNumber: SN74LVC32AQPWREP; VCC(Min)(V): 2; VCC(Max)(V): 3.6; Output Type: TTL; ICC @ Nom Voltage(Max)(mA): 0.01; Bits(#): 4; F @ Nom Voltage(Max)(Mhz): 70; Rating: HiRel Enhanced Product; Voltage(Nom)(V): 2.7,3.3; Output Drive (IOL/IOH)(Max)(mA): 24/-24; tpd @ Nom Voltage(Max)(ns): 4.4,3.8; DatasheetVersion: SCAS733C; PackageReference: PW0014A; Input Type: TTL; Operating Temperature Range(C): -40 to 125,-55 to 125; Code_JEDEC: MO-153; ComponentLink1Description: Manufacturer URL; ComponentLink1URL: http://www.ti.com/; ComponentLink2Description: Datasheet; ComponentLink2URL: http://www.ti.com/lit/ds/symlink/sn74lvc32a-ep.pdf; ComponentLink3Description: Package Specification; ComponentLink3URL: http://www.ti.com/lit/ml/mpds360/mpds360.pdf
footprint PW0014A_N (SOP, 14-Leads, Body 5.1x4.5mm, Pitch 0.65mm, IPC Medium Density)
footprint PW0014A_M (SOP, 14-Leads, Body 5.1x4.5mm, Pitch 0.65mm, IPC Low Density)
footprint PW0014A_L (SOP, 14-Leads, Body 5.1x4.5mm, Pitch 0.65mm, IPC High Density)
part A pins: 1 1A (in), 2 1B (in), 3 1Y (out)
part B pins: 4 2A (in), 5 2B (in), 6 2Y (out)
part C pins: 8 3Y (out), 9 3A (in), 10 3B (in)
part D pins: 11 4Y (out), 12 4A (in), 13 4B (in)
part E pins: 7 GND (power), 14 VCC (power)

## SN74LVC32AQPWRG4Q1
designator U?
Automotive Catalog Quadruple 2-Input Positive-OR Gate, PW0014A, LARGE T&R; Generic Part Number: SN74LVC32A-Q1; Manufacturer: Texas Instruments; PartNumber: SN74LVC32AQPWRG4Q1; VCC(Min)(V): 2; VCC(Max)(V): 3.6; Output Type: TTL; ICC @ Nom Voltage(Max)(mA): 0.01; Bits(#): 4; F @ Nom Voltage(Max)(Mhz): 70; Voltage(Nom)(V): 2.7,3.3; Output Drive (IOL/IOH)(Max)(mA): 24/-24; tpd @ Nom Voltage(Max)(ns): 4.4,3.8; DatasheetVersion: SCAS706B; PackageReference: PW0014A; Input Type: TTL; Operating Temperature Range(C): -40 to 125; Rating: Automotive; Code_JEDEC: MO-153; ComponentLink1Description: Manufacturer URL; ComponentLink1URL: http://www.ti.com/; ComponentLink2Description: Datasheet; ComponentLink2URL: http://www.ti.com/lit/ds/symlink/sn74lvc32a-q1.pdf; ComponentLink3Description: Package Specification; ComponentLink3URL: http://www.ti.com/lit/ml/mpds360/mpds360.pdf
footprint PW0014A_N (SOP, 14-Leads, Body 5.1x4.5mm, Pitch 0.65mm, IPC Medium Density)
footprint PW0014A_M (SOP, 14-Leads, Body 5.1x4.5mm, Pitch 0.65mm, IPC Low Density)
footprint PW0014A_L (SOP, 14-Leads, Body 5.1x4.5mm, Pitch 0.65mm, IPC High Density)
part A pins: 1 1A (in), 2 1B (in), 3 1Y (out)
part B pins: 4 2A (in), 5 2B (in), 6 2Y (out)
part C pins: 8 3Y (out), 9 3A (in), 10 3B (in)
part D pins: 11 4Y (out), 12 4A (in), 13 4B (in)
part E pins: 7 GND (power), 14 VCC (power)

## SN74LVC32AQPWRQ1
designator U?
Automotive Catalog Quadruple 2-Input Positive-OR Gate, PW0014A, LARGE T&R; Generic Part Number: SN74LVC32A-Q1; Manufacturer: Texas Instruments; PartNumber: SN74LVC32AQPWRQ1; VCC(Min)(V): 2; VCC(Max)(V): 3.6; Output Type: TTL; ICC @ Nom Voltage(Max)(mA): 0.01; Bits(#): 4; F @ Nom Voltage(Max)(Mhz): 70; Voltage(Nom)(V): 2.7,3.3; Output Drive (IOL/IOH)(Max)(mA): 24/-24; tpd @ Nom Voltage(Max)(ns): 4.4,3.8; DatasheetVersion: SCAS706B; PackageReference: PW0014A; Input Type: TTL; Operating Temperature Range(C): -40 to 125; Rating: Automotive; Code_JEDEC: MO-153; ComponentLink1Description: Manufacturer URL; ComponentLink1URL: http://www.ti.com/; ComponentLink2Description: Datasheet; ComponentLink2URL: http://www.ti.com/lit/ds/symlink/sn74lvc32a-q1.pdf; ComponentLink3Description: Package Specification; ComponentLink3URL: http://www.ti.com/lit/ml/mpds360/mpds360.pdf
footprint PW0014A_N (SOP, 14-Leads, Body 5.1x4.5mm, Pitch 0.65mm, IPC Medium Density)
footprint PW0014A_M (SOP, 14-Leads, Body 5.1x4.5mm, Pitch 0.65mm, IPC Low Density)
footprint PW0014A_L (SOP, 14-Leads, Body 5.1x4.5mm, Pitch 0.65mm, IPC High Density)
part A pins: 1 1A (in), 2 1B (in), 3 1Y (out)
part B pins: 4 2A (in), 5 2B (in), 6 2Y (out)
part C pins: 8 3Y (out), 9 3A (in), 10 3B (in)
part D pins: 11 4Y (out), 12 4A (in), 13 4B (in)
part E pins: 7 GND (power), 14 VCC (power)

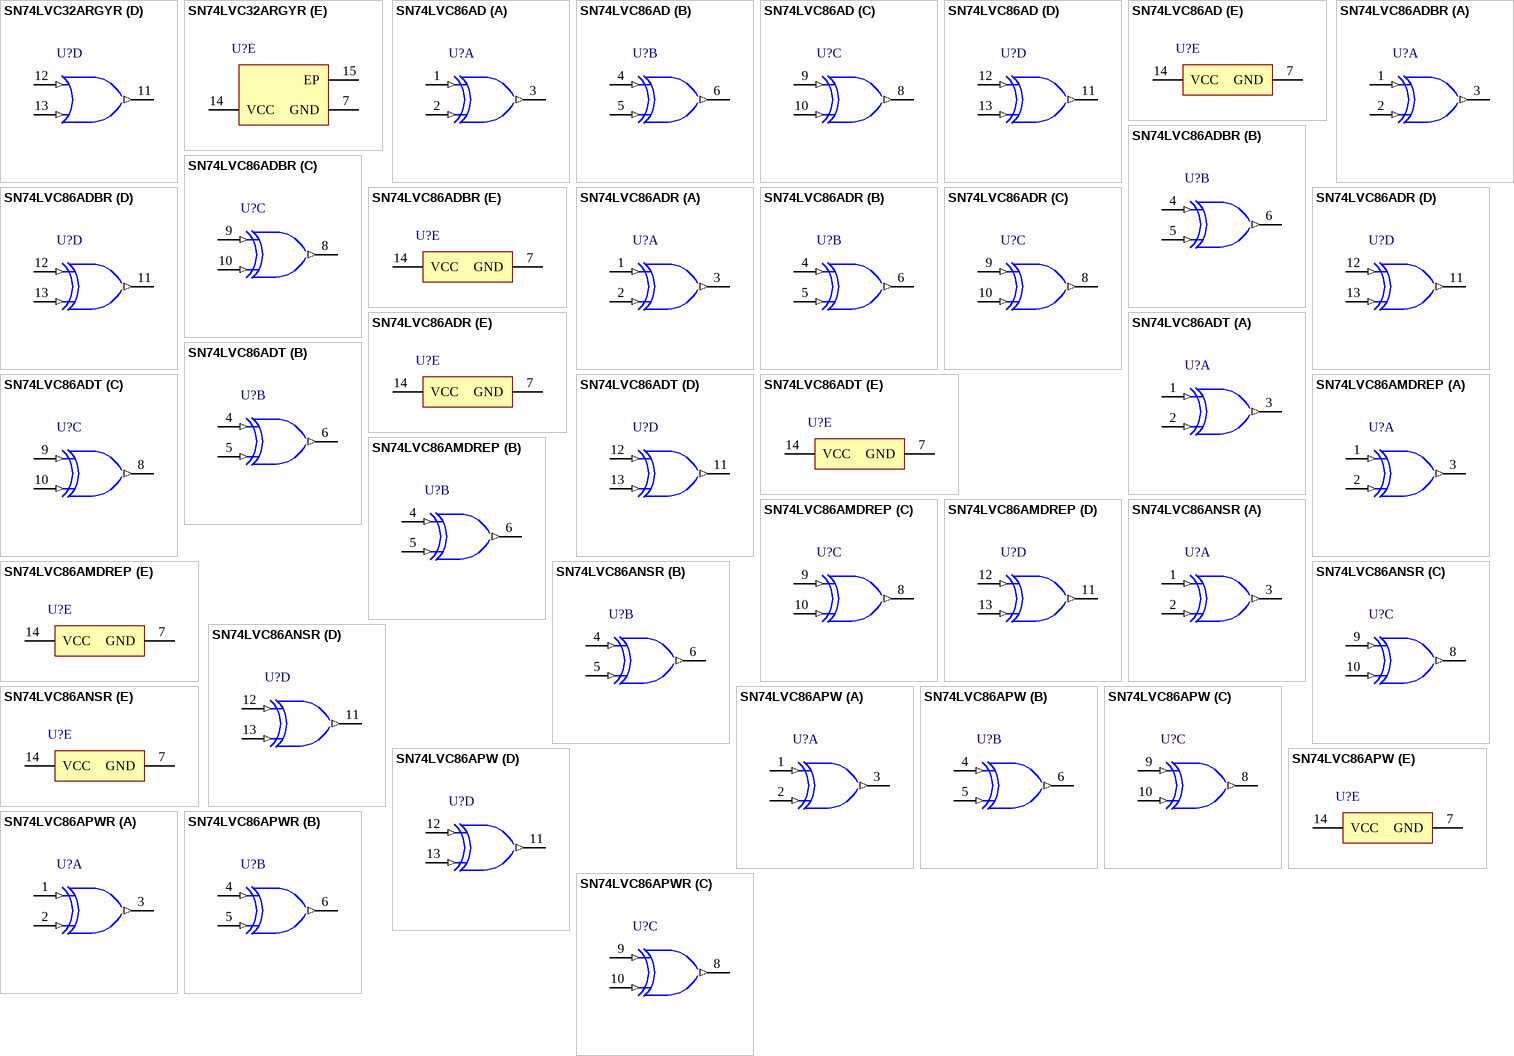
[diagram p178: symbols SN74LVC32ARGYR to SN74LVC86APWR]

## SN74LVC32ARGYR
designator U?
Quadruple 2-Input Positive-OR Gate, RGY0014A, LARGE T&R; Generic Part Number: SN74LVC32A; Manufacturer: Texas Instruments; PartNumber: SN74LVC32ARGYR; VCC(Min)(V): 1.65; VCC(Max)(V): 3.6; Output Type: TTL; ICC @ Nom Voltage(Max)(mA): 0.04; Bits(#): 4; F @ Nom Voltage(Max)(Mhz): 70; Rating: Catalog; Voltage(Nom)(V): 1.8,2.5,2.7,3.3; Output Drive (IOL/IOH)(Max)(mA): 24/-24; tpd @ Nom Voltage(Max)(ns): 8.7,5.4,4.4,3.8; DatasheetVersion: SCAS286Q; PackageReference: RGY0014A; Input Type: TTL; Operating Temperature Range(C): -40 to 105,-40 to 125; Code_JEDEC: MO-241; ComponentLink1Description: Manufacturer URL; ComponentLink1URL: http://www.ti.com/; ComponentLink2Description: Datasheet; ComponentLink2URL: http://www.ti.com/lit/ds/symlink/sn74lvc32a.pdf; ComponentLink3Description: Package Specification; ComponentLink3URL: http://www.ti.com/lit/ml/mpqf114g/mpqf114g.pdf
footprint RGY0014A_V (QFN, 14-Leads, Body 3.5x3.5mm, Thermal Pad 2.05x2.05mm, TI Recommend)
part A pins: 1 1A (in) "1A Input", 2 1B (in) "1B Input", 3 1Y (out) "1Y Output"
part B pins: 4 2A (in) "2A Input", 5 2B (in) "2B Input", 6 2Y (out) "2Y Output"
part C pins: 8 3Y (out) "3Y Output", 9 3A (in) "3A Input", 10 3B (in) "3B Input"
part D pins: 11 4Y (out) "4Y Output", 12 4A (in) "4A Input", 13 4B (in) "4B Input"
part E pins: 7 GND (power) "Ground Pin", 14 VCC (power) "Power Pin", 15 EP

## SN74LVC86AD
designator U?
Quadruple 2-Input Exclusive-OR Gate, D0014A, TUBE; Generic Part Number: SN74LVC86A; Manufacturer: Texas Instruments; PartNumber: SN74LVC86AD; VCC(Min)(V): 1.65; VCC(Max)(V): 3.6; Output Type: TTL; ICC @ Nom Voltage(Max)(mA): 0.01; Bits(#): 4; F @ Nom Voltage(Max)(Mhz): 70; Rating: Catalog; Technology Family: LVC; Voltage(Nom)(V): 1.8,2.5,2.7,3.3; Schmitt Trigger: No; Output Drive (IOL/IOH)(Max)(mA): 24/-24; tpd @ Nom Voltage(Max)(ns): 9.9,7.6,5.6,4.6; DatasheetVersion: SCAS288P; PackageReference: D0014A; Supplier 1: Mouser; Supplier Part Number 1: 595-SN74LVC86AD; Supplier 2: Digi-Key; Supplier Part Number 2: 296-8561-5-ND; Input Type: TTL; Operating Temperature Range(C): -40 to 125; ComponentLink1Description: Manufacturer URL; ComponentLink1URL: http://www.ti.com/; ComponentLink2Description: Datasheet; ComponentLink2URL: http://www.ti.com/lit/ds/symlink/sn74lvc86a.pdf
footprint D0014A_N (SOIC, 14-Leads, Body 8.75x4mm, Pitch 1.27mm, IPC Medium Density)
footprint D0014A_M (SOIC, 14-Leads, Body 8.75x4mm, Pitch 1.27mm, IPC Low Density)
footprint D0014A_L (SOIC, 14-Leads, Body 8.75x4mm, Pitch 1.27mm, IPC High Density)
part A pins: 1 1A (in), 2 1B (in), 3 1Y (out)
part B pins: 4 2A (in), 5 2B (in), 6 2Y (out)
part C pins: 8 3Y (out), 9 3A (in), 10 3B (in)
part D pins: 11 4Y (out), 12 4A (in), 13 4B (in)
part E pins: 7 GND (power), 14 VCC (power)

## SN74LVC86ADBR
designator U?
Quadruple 2-Input Exclusive-OR Gate, DB0014A, LARGE T&R; Generic Part Number: SN74LVC86A; Manufacturer: Texas Instruments; PartNumber: SN74LVC86ADBR; VCC(Min)(V): 1.65; VCC(Max)(V): 3.6; Output Type: TTL; ICC @ Nom Voltage(Max)(mA): 0.01; Bits(#): 4; F @ Nom Voltage(Max)(Mhz): 70; Rating: Catalog; Technology Family: LVC; Voltage(Nom)(V): 1.8,2.5,2.7,3.3; Schmitt Trigger: No; Output Drive (IOL/IOH)(Max)(mA): 24/-24; tpd @ Nom Voltage(Max)(ns): 9.9,7.6,5.6,4.6; DatasheetVersion: SCAS288P; PackageReference: DB0014A; Supplier 1: Mouser; Supplier Part Number 1: 595-SN74LVC86ADBR; Supplier 2: Digi-Key; Supplier Part Number 2: 296-8562-2-ND; Supplier 3: Digi-Key; Supplier Part Number 3: 296-8562-1-ND; Supplier 4: Digi-Key; Supplier Part Number 4: 296-8562-6-ND; Input Type: TTL; Operating Temperature Range(C): -40 to 125; ComponentLink1Description: Manufacturer URL; ComponentLink1URL: http://www.ti.com/; ComponentLink2Description: Datasheet; ComponentLink2URL: http://www.ti.com/lit/ds/symlink/sn74lvc86a.pdf
footprint DB0014A_N (SOP, 14-Leads, Body 5.6x6.5mm, Pitch 0.65mm, IPC Medium Density)
footprint DB0014A_M (SOP, 14-Leads, Body 5.6x6.5mm, Pitch 0.65mm, IPC Low Density)
footprint DB0014A_L (SOP, 14-Leads, Body 5.6x6.5mm, Pitch 0.65mm, IPC High Density)
part A pins: 1 1A (in), 2 1B (in), 3 1Y (out)
part B pins: 4 2A (in), 5 2B (in), 6 2Y (out)
part C pins: 8 3Y (out), 9 3A (in), 10 3B (in)
part D pins: 11 4Y (out), 12 4A (in), 13 4B (in)
part E pins: 7 GND (power), 14 VCC (power)

## SN74LVC86ADR
designator U?
Quadruple 2-Input Exclusive-OR Gate, D0014A, LARGE T&R; Generic Part Number: SN74LVC86A; Manufacturer: Texas Instruments; PartNumber: SN74LVC86ADR; VCC(Min)(V): 1.65; VCC(Max)(V): 3.6; Output Type: TTL; ICC @ Nom Voltage(Max)(mA): 0.01; Bits(#): 4; F @ Nom Voltage(Max)(Mhz): 70; Rating: Catalog; Technology Family: LVC; Voltage(Nom)(V): 1.8,2.5,2.7,3.3; Schmitt Trigger: No; Output Drive (IOL/IOH)(Max)(mA): 24/-24; tpd @ Nom Voltage(Max)(ns): 9.9,7.6,5.6,4.6; DatasheetVersion: SCAS288P; PackageReference: D0014A; Supplier 1: Mouser; Supplier Part Number 1: 595-SN74LVC86ADR; Supplier 2: Digi-Key; Supplier Part Number 2: 296-14915-2-ND; Supplier 3: Digi-Key; Supplier Part Number 3: 296-14915-1-ND; Supplier 4: Digi-Key; Supplier Part Number 4: 296-14915-6-ND; Input Type: TTL; Operating Temperature Range(C): -40 to 125; ComponentLink1Description: Manufacturer URL; ComponentLink1URL: http://www.ti.com/; ComponentLink2Description: Datasheet; ComponentLink2URL: http://www.ti.com/lit/ds/symlink/sn74lvc86a.pdf
footprint D0014A_N (SOIC, 14-Leads, Body 8.75x4mm, Pitch 1.27mm, IPC Medium Density)
footprint D0014A_M (SOIC, 14-Leads, Body 8.75x4mm, Pitch 1.27mm, IPC Low Density)
footprint D0014A_L (SOIC, 14-Leads, Body 8.75x4mm, Pitch 1.27mm, IPC High Density)
part A pins: 1 1A (in), 2 1B (in), 3 1Y (out)
part B pins: 4 2A (in), 5 2B (in), 6 2Y (out)
part C pins: 8 3Y (out), 9 3A (in), 10 3B (in)
part D pins: 11 4Y (out), 12 4A (in), 13 4B (in)
part E pins: 7 GND (power), 14 VCC (power)

## SN74LVC86ADT
designator U?
Quadruple 2-Input Exclusive-OR Gate, D0014A, SMALL T&R; Generic Part Number: SN74LVC86A; Manufacturer: Texas Instruments; PartNumber: SN74LVC86ADT; VCC(Min)(V): 1.65; VCC(Max)(V): 3.6; Output Type: TTL; ICC @ Nom Voltage(Max)(mA): 0.01; Bits(#): 4; F @ Nom Voltage(Max)(Mhz): 70; Rating: Catalog; Technology Family: LVC; Voltage(Nom)(V): 1.8,2.5,2.7,3.3; Schmitt Trigger: No; Output Drive (IOL/IOH)(Max)(mA): 24/-24; tpd @ Nom Voltage(Max)(ns): 9.9,7.6,5.6,4.6; DatasheetVersion: SCAS288P; PackageReference: D0014A; Supplier 1: Mouser; Supplier Part Number 1: 595-SN74LVC86ADT; Supplier 2: Digi-Key; Supplier Part Number 2: SN74LVC86ADT-ND; Input Type: TTL; Operating Temperature Range(C): -40 to 125; ComponentLink1Description: Manufacturer URL; ComponentLink1URL: http://www.ti.com/; ComponentLink2Description: Datasheet; ComponentLink2URL: http://www.ti.com/lit/ds/symlink/sn74lvc86a.pdf
footprint D0014A_N (SOIC, 14-Leads, Body 8.75x4mm, Pitch 1.27mm, IPC Medium Density)
footprint D0014A_M (SOIC, 14-Leads, Body 8.75x4mm, Pitch 1.27mm, IPC Low Density)
footprint D0014A_L (SOIC, 14-Leads, Body 8.75x4mm, Pitch 1.27mm, IPC High Density)
part A pins: 1 1A (in), 2 1B (in), 3 1Y (out)
part B pins: 4 2A (in), 5 2B (in), 6 2Y (out)
part C pins: 8 3Y (out), 9 3A (in), 10 3B (in)
part D pins: 11 4Y (out), 12 4A (in), 13 4B (in)
part E pins: 7 GND (power), 14 VCC (power)

## SN74LVC86AMDREP
designator U?
Enhanced Product Quadruple 2-Input Exclusive-Or Gate, D0014A, LARGE T&R; Generic Part Number: SN74LVC86A-EP; Manufacturer: Texas Instruments; PartNumber: SN74LVC86AMDREP; VCC(Min)(V): 2; VCC(Max)(V): 3.6; Output Type: TTL; ICC @ Nom Voltage(Max)(mA): 0.01; Bits(#): 4; F @ Nom Voltage(Max)(Mhz): 70; Rating: HiRel Enhanced Product; Technology Family: LVC; Voltage(Nom)(V): 2.7,3.3; Schmitt Trigger: No; Output Drive (IOL/IOH)(Max)(mA): 24/-24; tpd @ Nom Voltage(Max)(ns): 5.6,4.6; DatasheetVersion: SCAS752B; PackageReference: D0014A; Supplier 1: Mouser; Supplier Part Number 1: 595-SN74LVC86AMDREP; Supplier 2: Digi-Key; Supplier Part Number 2: 296-22381-2-ND; Supplier 3: Digi-Key; Supplier Part Number 3: 296-22381-1-ND; Supplier 4: Digi-Key; Supplier Part Number 4: 296-22381-6-ND; Input Type: TTL; Operating Temperature Range(C): -40 to 125,-55 to 125; ComponentLink1Description: Manufacturer URL; ComponentLink1URL: http://www.ti.com/; ComponentLink2Description: Datasheet; ComponentLink2URL: http://www.ti.com/lit/ds/symlink/sn74lvc86a-ep.pdf
footprint D0014A_N (SOIC, 14-Leads, Body 8.75x4mm, Pitch 1.27mm, IPC Medium Density)
footprint D0014A_M (SOIC, 14-Leads, Body 8.75x4mm, Pitch 1.27mm, IPC Low Density)
footprint D0014A_L (SOIC, 14-Leads, Body 8.75x4mm, Pitch 1.27mm, IPC High Density)
part A pins: 1 1A (in), 2 1B (in), 3 1Y (out)
part B pins: 4 2A (in), 5 2B (in), 6 2Y (out)
part C pins: 8 3Y (out), 9 3A (in), 10 3B (in)
part D pins: 11 4Y (out), 12 4A (in), 13 4B (in)
part E pins: 7 GND (power), 14 VCC (power)

## SN74LVC86ANSR
designator U?
Quadruple 2-Input Exclusive-OR Gate, NS0014A, LARGE T&R; Generic Part Number: SN74LVC86A; Manufacturer: Texas Instruments; PartNumber: SN74LVC86ANSR; VCC(Min)(V): 1.65; VCC(Max)(V): 3.6; Output Type: TTL; ICC @ Nom Voltage(Max)(mA): 0.01; Bits(#): 4; F @ Nom Voltage(Max)(Mhz): 70; Rating: Catalog; Technology Family: LVC; Voltage(Nom)(V): 1.8,2.5,2.7,3.3; Schmitt Trigger: No; Output Drive (IOL/IOH)(Max)(mA): 24/-24; tpd @ Nom Voltage(Max)(ns): 9.9,7.6,5.6,4.6; DatasheetVersion: SCAS288P; PackageReference: NS0014A; Supplier 1: Mouser; Supplier Part Number 1: 595-SN74LVC86ANSR; Supplier 2: Digi-Key; Supplier Part Number 2: 296-28727-2-ND; Supplier 3: Digi-Key; Supplier Part Number 3: 296-28727-1-ND; Supplier 4: Digi-Key; Supplier Part Number 4: 296-28727-6-ND; Input Type: TTL; Operating Temperature Range(C): -40 to 125; ComponentLink1Description: Manufacturer URL; ComponentLink1URL: http://www.ti.com/; ComponentLink2Description: Datasheet; ComponentLink2URL: http://www.ti.com/lit/ds/symlink/sn74lvc86a.pdf
footprint NS0014A_N (SOIC,14-Leads,Body 10.5x5.6mm,Pitch 1.27mm,IPC Medium Density)
footprint NS0014A_M (SOIC,14-Leads,Body 10.5x5.6mm,Pitch 1.27mm,IPC Low Density)
footprint NS0014A_L (SOIC,14-Leads,Body 10.5x5.6mm,Pitch 0.4mm,IPC High Density)
part A pins: 1 1A (in), 2 1B (in), 3 1Y (out)
part B pins: 4 2A (in), 5 2B (in), 6 2Y (out)
part C pins: 8 3Y (out), 9 3A (in), 10 3B (in)
part D pins: 11 4Y (out), 12 4A (in), 13 4B (in)
part E pins: 7 GND (power), 14 VCC (power)

## SN74LVC86APW
designator U?
Quadruple 2-Input Exclusive-OR Gate, PW0014A, TUBE; Generic Part Number: SN74LVC86A; Manufacturer: Texas Instruments; PartNumber: SN74LVC86APW; VCC(Min)(V): 1.65; VCC(Max)(V): 3.6; Output Type: TTL; ICC @ Nom Voltage(Max)(mA): 0.01; Bits(#): 4; F @ Nom Voltage(Max)(Mhz): 70; Rating: Catalog; Technology Family: LVC; Voltage(Nom)(V): 1.8,2.5,2.7,3.3; Schmitt Trigger: No; Output Drive (IOL/IOH)(Max)(mA): 24/-24; tpd @ Nom Voltage(Max)(ns): 9.9,7.6,5.6,4.6; DatasheetVersion: SCAS288P; PackageReference: PW0014A; Supplier 1: Mouser; Supplier Part Number 1: 595-SN74LVC86APW; Supplier 2: Digi-Key; Supplier Part Number 2: 296-26632-5-ND; Input Type: TTL; Operating Temperature Range(C): -40 to 125; ComponentLink1Description: Manufacturer URL; ComponentLink1URL: http://www.ti.com/; ComponentLink2Description: Datasheet; ComponentLink2URL: http://www.ti.com/lit/ds/symlink/sn74lvc86a.pdf
footprint PW0014A_N (SOP, 14-Leads, Body 5.1x4.5mm, Pitch 0.65mm, IPC Medium Density)
footprint PW0014A_M (SOP, 14-Leads, Body 5.1x4.5mm, Pitch 0.65mm, IPC Low Density)
footprint PW0014A_L (SOP, 14-Leads, Body 5.1x4.5mm, Pitch 0.65mm, IPC High Density)
part A pins: 1 1A (in), 2 1B (in), 3 1Y (out)
part B pins: 4 2A (in), 5 2B (in), 6 2Y (out)
part C pins: 8 3Y (out), 9 3A (in), 10 3B (in)
part D pins: 11 4Y (out), 12 4A (in), 13 4B (in)
part E pins: 7 GND (power), 14 VCC (power)

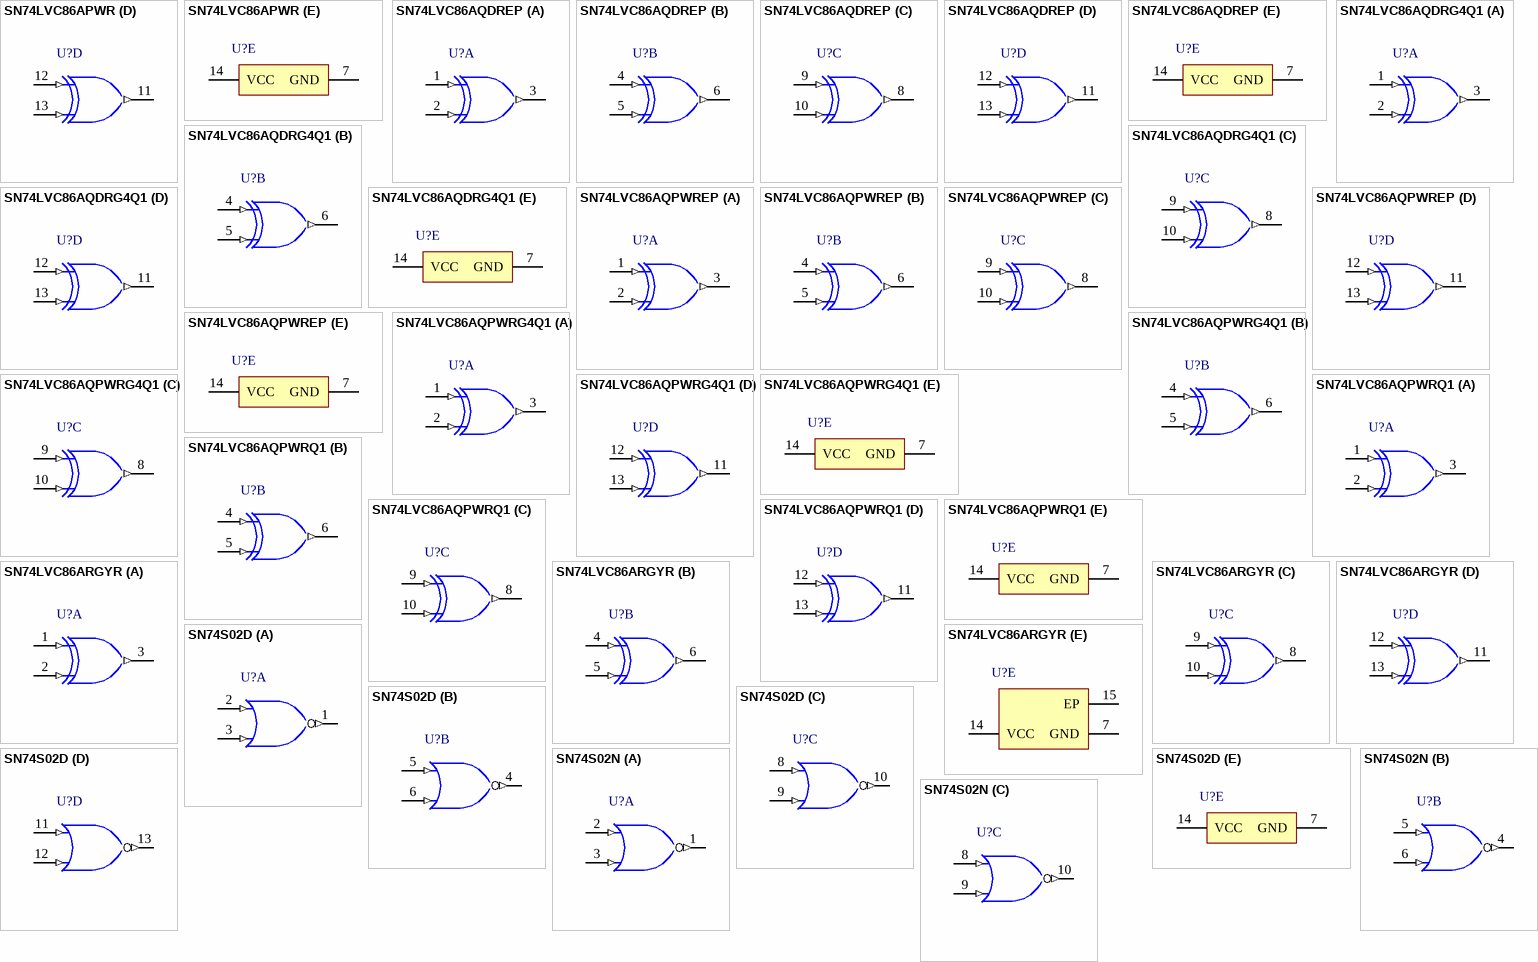
[diagram p179: symbols SN74LVC86APWR to SN74S02N]

## SN74LVC86APWR
designator U?
Quadruple 2-Input Exclusive-OR Gate, PW0014A, LARGE T&R; Generic Part Number: SN74LVC86A; Manufacturer: Texas Instruments; PartNumber: SN74LVC86APWR; VCC(Min)(V): 1.65; VCC(Max)(V): 3.6; Output Type: TTL; ICC @ Nom Voltage(Max)(mA): 0.01; Bits(#): 4; F @ Nom Voltage(Max)(Mhz): 70; Rating: Catalog; Technology Family: LVC; Voltage(Nom)(V): 1.8,2.5,2.7,3.3; Schmitt Trigger: No; Output Drive (IOL/IOH)(Max)(mA): 24/-24; tpd @ Nom Voltage(Max)(ns): 9.9,7.6,5.6,4.6; DatasheetVersion: SCAS288P; PackageReference: PW0014A; Supplier 1: Mouser; Supplier Part Number 1: 595-SN74LVC86APWR; Supplier 2: Digi-Key; Supplier Part Number 2: 296-1242-2-ND; Supplier 3: Digi-Key; Supplier Part Number 3: 296-1242-1-ND; Supplier 4: Digi-Key; Supplier Part Number 4: 296-1242-6-ND; Input Type: TTL; Operating Temperature Range(C): -40 to 125; ComponentLink1Description: Manufacturer URL; ComponentLink1URL: http://www.ti.com/; ComponentLink2Description: Datasheet; ComponentLink2URL: http://www.ti.com/lit/ds/symlink/sn74lvc86a.pdf
footprint PW0014A_N (SOP, 14-Leads, Body 5.1x4.5mm, Pitch 0.65mm, IPC Medium Density)
footprint PW0014A_M (SOP, 14-Leads, Body 5.1x4.5mm, Pitch 0.65mm, IPC Low Density)
footprint PW0014A_L (SOP, 14-Leads, Body 5.1x4.5mm, Pitch 0.65mm, IPC High Density)
part A pins: 1 1A (in), 2 1B (in), 3 1Y (out)
part B pins: 4 2A (in), 5 2B (in), 6 2Y (out)
part C pins: 8 3Y (out), 9 3A (in), 10 3B (in)
part D pins: 11 4Y (out), 12 4A (in), 13 4B (in)
part E pins: 7 GND (power), 14 VCC (power)